# Altium schematic symbol library SCH - MCU - NUVOTON - NUVOTON M0516LDN.SchLib: 1 symbol
Pins are listed as number, name and electrical type; pins without a type are passive.

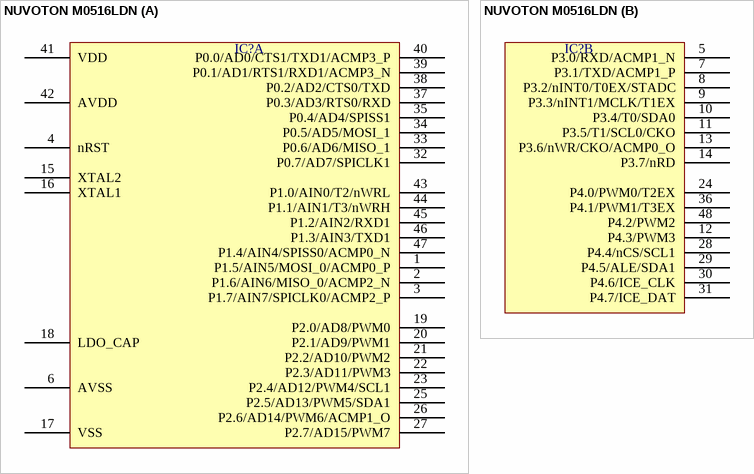
[diagram p0: symbol NUVOTON M0516LDN]

## NUVOTON M0516LDN
designator IC?  (value not drawn)
part A pins: 1 P1.5/AIN5/MOSI_0/ACMP0_P, 2 P1.6/AIN6/MISO_0/ACMP2_N, 3 P1.7/AIN7/SPICLK0/ACMP2_P, 4 nRST, 6 AVSS, 15 XTAL2, 16 XTAL1, 17 VSS, 18 LDO_CAP, 19 P2.0/AD8/PWM0, 20 P2.1/AD9/PWM1, 21 P2.2/AD10/PWM2, 22 P2.3/AD11/PWM3, 23 P2.4/AD12/PWM4/SCL1, 25 P2.5/AD13/PWM5/SDA1, 26 P2.6/AD14/PWM6/ACMP1_O, 27 P2.7/AD15/PWM7, 32 P0.7/AD7/SPICLK1, 33 P0.6/AD6/MISO_1, 34 P0.5/AD5/MOSI_1, 35 P0.4/AD4/SPISS1, 37 P0.3/AD3/RTS0/RXD, 38 P0.2/AD2/CTS0/TXD, 39 P0.1/AD1/RTS1/RXD1/ACMP3_N, 40 P0.0/AD0/CTS1/TXD1/ACMP3_P, 41 VDD, 42 AVDD, 43 P1.0/AIN0/T2/nWRL, 44 P1.1/AIN1/T3/nWRH, 45 P1.2/AIN2/RXD1, 46 P1.3/AIN3/TXD1, 47 P1.4/AIN4/SPISS0/ACMP0_N
part B pins: 5 P3.0/RXD/ACMP1_N, 7 P3.1/TXD/ACMP1_P, 8 P3.2/nINT0/T0EX/STADC, 9 P3.3/nINT1/MCLK/T1EX, 10 P3.4/T0/SDA0, 11 P3.5/T1/SCL0/CKO, 12 P4.3/PWM3, 13 P3.6/nWR/CKO/ACMP0_O, 14 P3.7/nRD, 24 P4.0/PWM0/T2EX, 28 P4.4/nCS/SCL1, 29 P4.5/ALE/SDA1, 30 P4.6/ICE_CLK, 31 P4.7/ICE_DAT, 36 P4.1/PWM1/T3EX, 48 P4.2/PWM2